# Altium footprint library Common Mode Choke Inductors.PcbLib: 2 footprints
Each footprint in its own frame and in the unit in brackets; x right, y up, seen from the top. Pads: shape width x height; smd on the part's side, far side on the other; paste and mask are expansions set on the pad; w line width, h text height; cw(c..) or ccw(c..) is an arc to the next point about the centre after c.
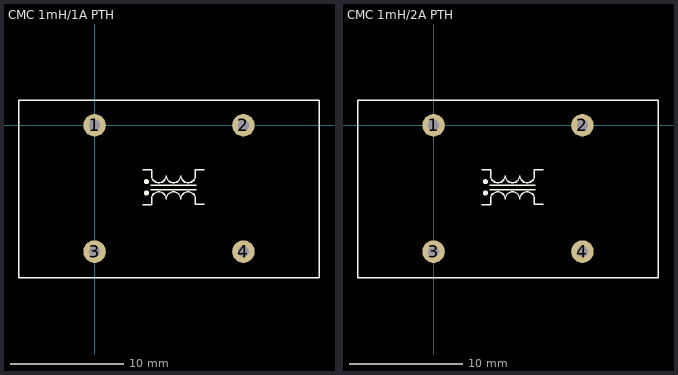
[diagram p0: the footprints below, top view; thin cyan lines are the x and y axes]

## CMC 1mH/1A PTH [mm] "1mH @ 100kHz 2 Line Common Mode Choke Through Hole  1A DCR 70 mOhm"
pads (4):
  round 2 hole 1: 1(0,0) 2(13.2,0) 3(0,-11.2) 4(13.2,-11.2)
Top Overlay:
  circle w0.254: c4.6,-6 r0.1
  circle w0.254: c4.6,-5 r0.1
  lines w0.127: 4.255,-7.045 5.055,-7.045 5.055,-6.545 cw(c5.7,-6.545) 5.7,-5.9 cw(c5.7,-6.545) 6.345,-6.545 ; 4.255,-3.955 5.055,-3.955 5.055,-4.455 ccw(c5.7,-4.455) 5.7,-5.1 ccw(c5.7,-4.455) 6.345,-4.455 ; 5,-5.7 9,-5.7 ; 5,-5.3 9,-5.3 ; 6.355,-6.545 cw(c7,-6.545) 7,-5.9 cw(c7,-6.545) 7.645,-6.545 ; 6.355,-4.455 ccw(c7,-4.455) 7,-5.1 ccw(c7,-4.455) 7.645,-4.455 ; 7.655,-6.545 cw(c8.3,-6.545) 8.3,-5.9 cw(c8.3,-6.545) 8.945,-6.545 ; 7.655,-4.455 ccw(c8.3,-4.455) 8.3,-5.1 ccw(c8.3,-4.455) 8.945,-4.455 8.945,-3.955 9.745,-3.955 ; 8.945,-6.49 8.945,-6.99 9.745,-6.99 ; -6.7,-13.5 -6.7,2.2 19.9,2.2 19.9,-13.5 -6.7,-13.5
3D body "Common Mode Choke - Toroidal.STEP": height 26.95, standoff -1.23, extent -6.629,-13.4 19.829,2.1

## CMC 1mH/2A PTH [mm] "1mH @ 100kHz 2 Line Common Mode Choke Through Hole  2A DCR 50 mOhm"
pads (4):
  round 2 hole 1: 1(0,0) 2(13.2,0) 3(0,-11.2) 4(13.2,-11.2)
Top Overlay:
  circle w0.254: c4.6,-6 r0.1
  circle w0.254: c4.6,-5 r0.1
  lines w0.127: 4.255,-7.045 5.055,-7.045 5.055,-6.545 cw(c5.7,-6.545) 5.7,-5.9 cw(c5.7,-6.545) 6.345,-6.545 ; 4.255,-3.955 5.055,-3.955 5.055,-4.455 ccw(c5.7,-4.455) 5.7,-5.1 ccw(c5.7,-4.455) 6.345,-4.455 ; 5,-5.7 9,-5.7 ; 5,-5.3 9,-5.3 ; 6.355,-6.545 cw(c7,-6.545) 7,-5.9 cw(c7,-6.545) 7.645,-6.545 ; 6.355,-4.455 ccw(c7,-4.455) 7,-5.1 ccw(c7,-4.455) 7.645,-4.455 ; 7.655,-6.545 cw(c8.3,-6.545) 8.3,-5.9 cw(c8.3,-6.545) 8.945,-6.545 ; 7.655,-4.455 ccw(c8.3,-4.455) 8.3,-5.1 ccw(c8.3,-4.455) 8.945,-4.455 8.945,-3.955 9.745,-3.955 ; 8.945,-6.49 8.945,-6.99 9.745,-6.99 ; -6.7,-13.5 -6.7,2.2 19.9,2.2 19.9,-13.5 -6.7,-13.5
3D body "Common Mode Choke - Toroidal.STEP": height 26.95, standoff -1.23, extent -6.629,-13.4 19.829,2.1